# Altium footprint library LED.PcbLib: 2 footprints
Each footprint in its own frame and in the unit in brackets; x right, y up, seen from the top. Pads: shape width x height; smd on the part's side, far side on the other; paste and mask are expansions set on the pad; w line width, h text height; cw(c..) or ccw(c..) is an arc to the next point about the centre after c.
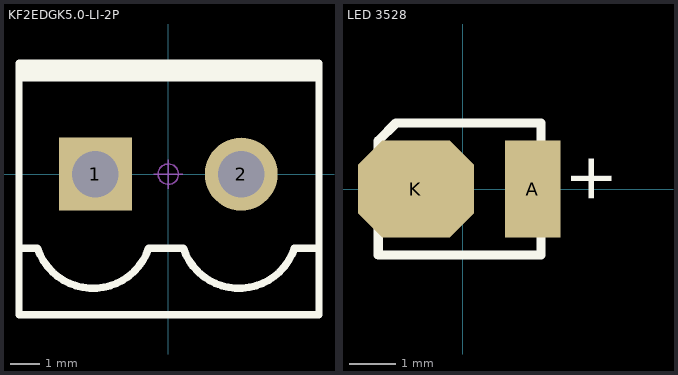
[diagram p0: the footprints below, top view; thin cyan lines are the x and y axes]

## KF2EDGK5.0-LI-2P [mm] "立插端子"
pads (2):
  rect 2.5x2.5 hole 1.6: 1(-2.5,0)
  round 2.5 hole 1.6: 2(2.5,0)
Top Overlay:
  lines w0.254: -5.12,-2.54 -4.485,-2.54 ccw(c-2.58,-1.905) -0.675,-2.54 0.515,-2.54 ccw(c2.42,-1.905) 4.325,-2.54 5.167,-2.54 ; -5.12,3.302 5.167,3.302 ; -5.12,3.556 5.167,3.556 ; -5.12,-4.826 5.167,-4.826 5.167,3.81 -5.12,3.81 -5.12,-4.826
Mechanical 15:
  circle w0.05: c0,0 r0.35
  lines w0.05: -0.5,0 0.5,0 ; 0,-0.5 0,0.5
3D body "KF2EDGK-1P.STEP": height 11.25, standoff -2.95, extent -0.04,-4.75 5.04,3.75
3D body "KF2EDGK-1P.STEP": height 11.25, standoff -2.95, extent -5.04,-4.75 0.04,3.75

## LED 3528 [mm] "红色3528LED"
pads (2):
  rect 1.2x2.1 smd: A(1.511,0)
  oct 2.5x2.1 smd: K(-1.003,0)
Top Overlay:
  lines w0.2: -1.816,-1.422 1.689,-1.422 1.689,1.422 -1.435,1.422 -1.816,1.041 -1.816,-1.422
  text "+" at 3.213,-0.356 h1
3D body "Led_3528_SingleColor.step": height 1.9, standoff 0, extent -1.75,-1.4 1.75,1.4